# Altium footprint library HDR1X4.PcbLib: 1 footprints
Each footprint in its own frame and in the unit in brackets; x right, y up, seen from the top. Pads: shape width x height; smd on the part's side, far side on the other; paste and mask are expansions set on the pad; w line width, h text height; cw(c..) or ccw(c..) is an arc to the next point about the centre after c.
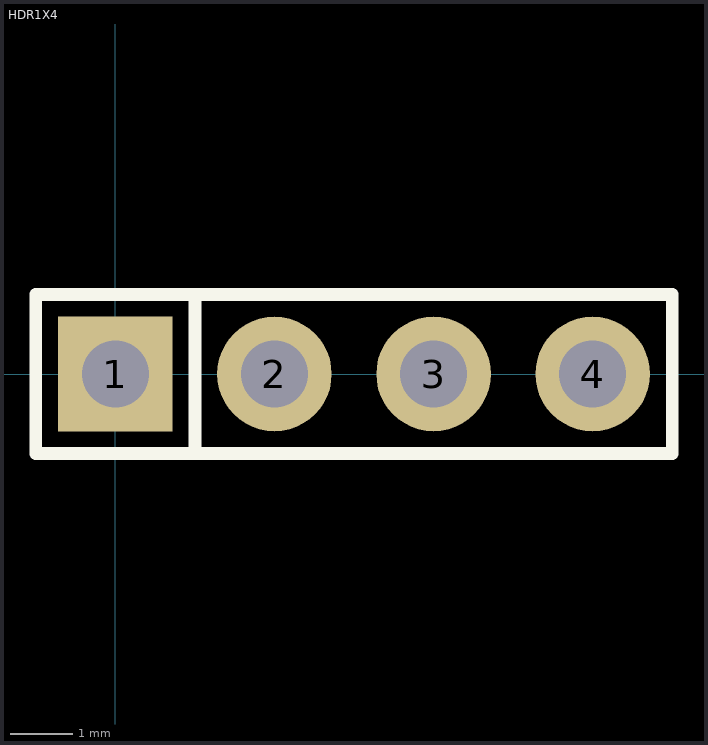
[diagram p0: the footprint, top view; thin cyan lines are the x and y axes]

## HDR1X4 [mil]
pads (4):
  rect 72x72 hole 42: 1(0,0)
  round 72 hole 42: 2(100,0) 3(200,0) 4(300,0)
Top Overlay:
  lines w8: 50,-50 50,50 ; -50,-50 -50,50 350,50 350,-50 -50,-50
Mechanical 4:
  text ".341" at 0,-0.23 h1
  text ".341" at 0,0 h1